# Altium schematic symbol library SCH - COMPARATOR - MICROCHIP MCP6541U.SCHLIB: 1 symbol
Pins are listed as number, name and electrical type; pins without a type are passive.

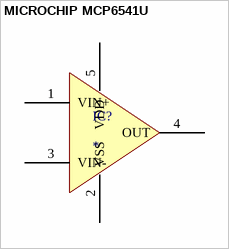
[diagram p0: symbol MICROCHIP MCP6541U]

## MICROCHIP MCP6541U
designator IC?
pins: 1 VIN+, 2 VSS (power), 3 VIN-, 4 OUT, 5 VDD (power)